# Altium schematic symbol library BHR-06-VUA.SchLib: 1 symbol
Pins are listed as number, name and electrical type; pins without a type are passive.

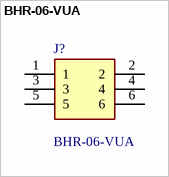
[diagram p0: symbol BHR-06-VUA]

## BHR-06-VUA
designator J?
Box Header, Vertical, 6 Pos; Manufacturer_Name: Adam Tech; Geometry.Height: 9.2mm; Mouser Part Number: *; Mouser Price/Stock: *; Manufacturer_Part_Number: BHR-06-VUA; Datasheet Link: https://app.adam-tech.com/products/download/data_sheet/203218/bhr-xx-vua-data-sheet.pdf
footprint SHDR6W64P254_2X3_1522X880X920P
pins: 1, 2, 3, 4, 5, 6